# Altium schematic symbol library SCH - MCU - NUVOTON - NUVOTON M2354KJFAE.SchLib: 1 symbol
Pins are listed as number, name and electrical type; pins without a type are passive.

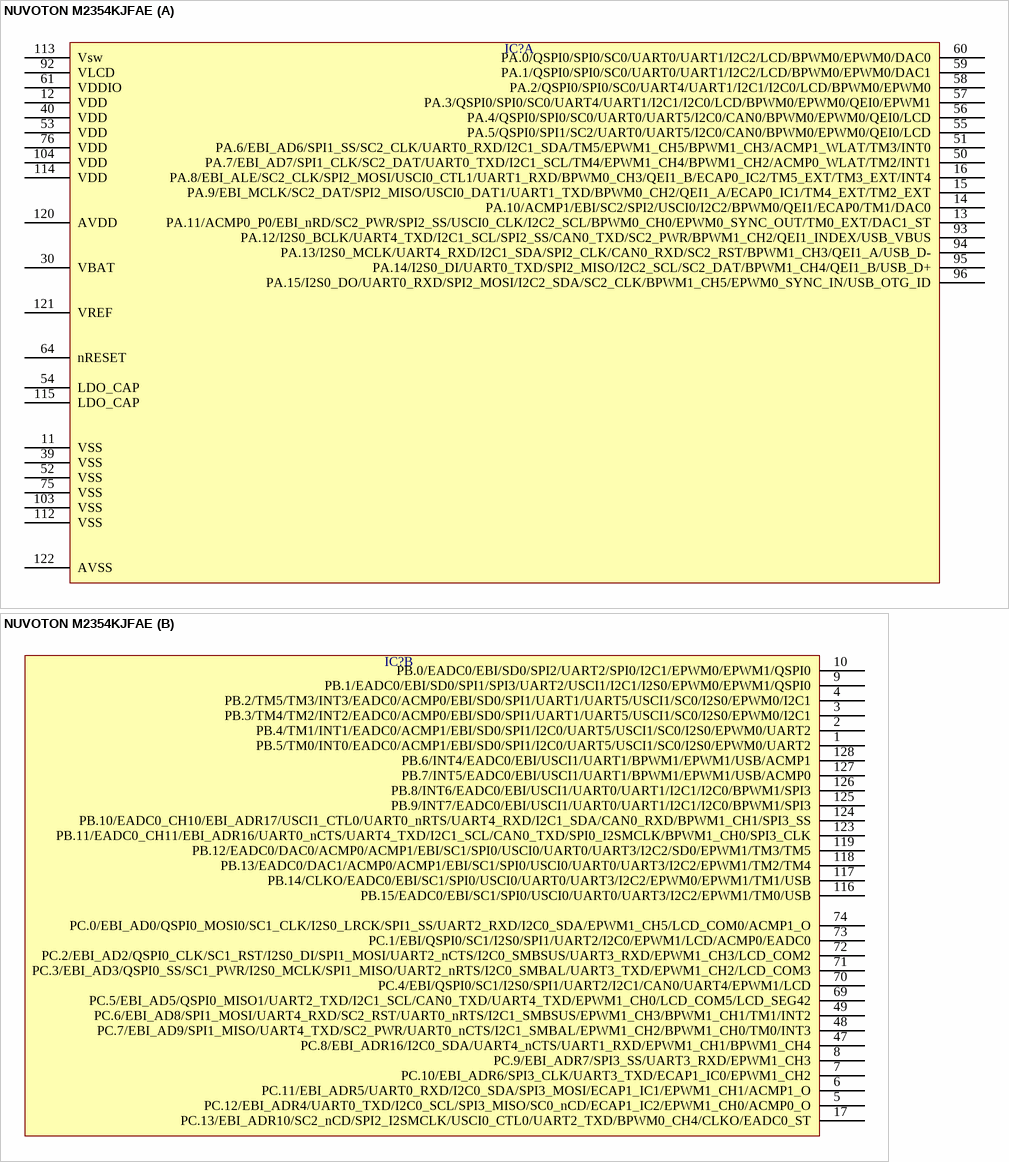
[diagram p0: symbol NUVOTON M2354KJFAE]

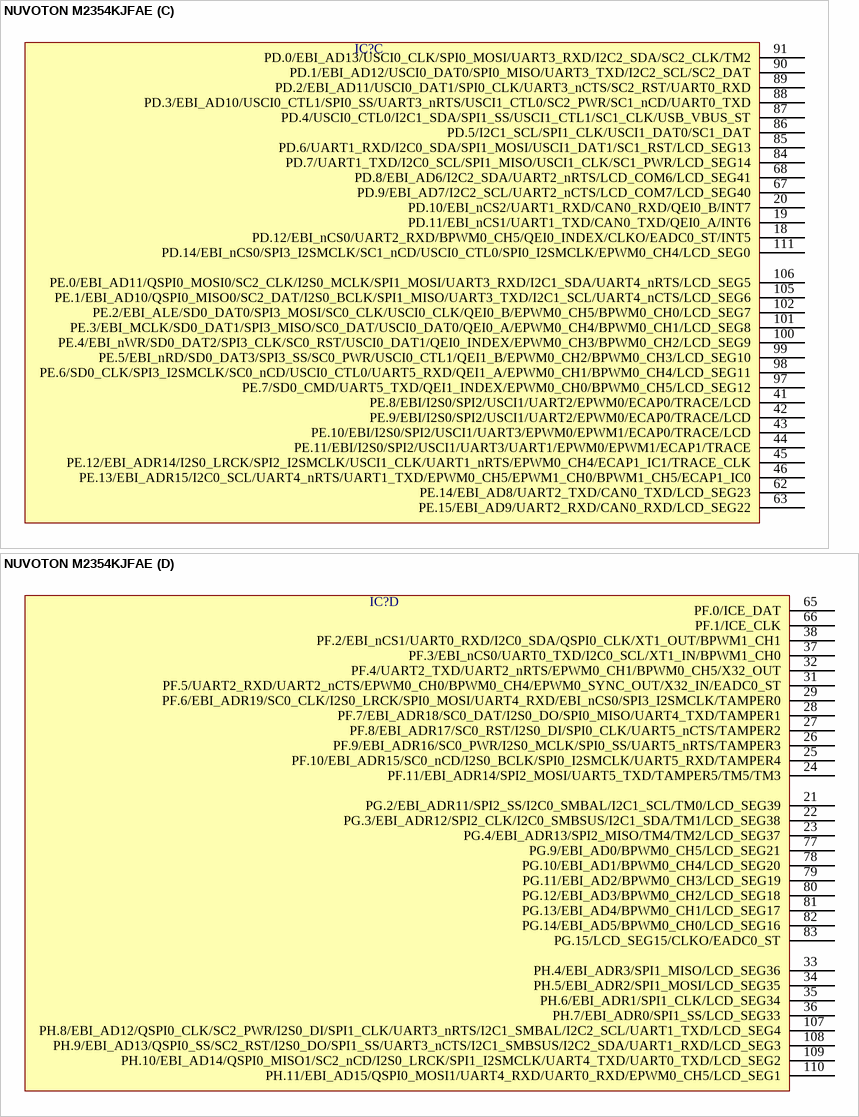
[diagram p1: symbol NUVOTON M2354KJFAE]

## NUVOTON M2354KJFAE
designator IC?  (value not drawn)
part A pins: 11 VSS, 12 VDD, 13 PA.11/ACMP0_P0/EBI_nRD/SC2_PWR/SPI2_SS/USCI0_CLK/I2C2_SCL/BPWM0_CH0/EPWM0_SYNC_OUT/TM0_EXT/DAC1_ST, 14 PA.10/ACMP1/EBI/SC2/SPI2/USCI0/I2C2/BPWM0/QEI1/ECAP0/TM1/DAC0, 15 PA.9/EBI_MCLK/SC2_DAT/SPI2_MISO/USCI0_DAT1/UART1_TXD/BPWM0_CH2/QEI1_A/ECAP0_IC1/TM4_EXT/TM2_EXT, 16 PA.8/EBI_ALE/SC2_CLK/SPI2_MOSI/USCI0_CTL1/UART1_RXD/BPWM0_CH3/QEI1_B/ECAP0_IC2/TM5_EXT/TM3_EXT/INT4, 30 VBAT, 39 VSS, 40 VDD, 50 PA.7/EBI_AD7/SPI1_CLK/SC2_DAT/UART0_TXD/I2C1_SCL/TM4/EPWM1_CH4/BPWM1_CH2/ACMP0_WLAT/TM2/INT1, 51 PA.6/EBI_AD6/SPI1_SS/SC2_CLK/UART0_RXD/I2C1_SDA/TM5/EPWM1_CH5/BPWM1_CH3/ACMP1_WLAT/TM3/INT0, 52 VSS, 53 VDD, 54 LDO_CAP, 55 PA.5/QSPI0/SPI1/SC2/UART0/UART5/I2C0/CAN0/BPWM0/EPWM0/QEI0/LCD, 56 PA.4/QSPI0/SPI0/SC0/UART0/UART5/I2C0/CAN0/BPWM0/EPWM0/QEI0/LCD, 57 PA.3/QSPI0/SPI0/SC0/UART4/UART1/I2C1/I2C0/LCD/BPWM0/EPWM0/QEI0/EPWM1, 58 PA.2/QSPI0/SPI0/SC0/UART4/UART1/I2C1/I2C0/LCD/BPWM0/EPWM0, 59 PA.1/QSPI0/SPI0/SC0/UART0/UART1/I2C2/LCD/BPWM0/EPWM0/DAC1, 60 PA.0/QSPI0/SPI0/SC0/UART0/UART1/I2C2/LCD/BPWM0/EPWM0/DAC0, 61 VDDIO, 64 nRESET, 75 VSS, 76 VDD, 92 VLCD, 93 PA.12/I2S0_BCLK/UART4_TXD/I2C1_SCL/SPI2_SS/CAN0_TXD/SC2_PWR/BPWM1_CH2/QEI1_INDEX/USB_VBUS, 94 PA.13/I2S0_MCLK/UART4_RXD/I2C1_SDA/SPI2_CLK/CAN0_RXD/SC2_RST/BPWM1_CH3/QEI1_A/USB_D-, 95 PA.14/I2S0_DI/UART0_TXD/SPI2_MISO/I2C2_SCL/SC2_DAT/BPWM1_CH4/QEI1_B/USB_D+, 96 PA.15/I2S0_DO/UART0_RXD/SPI2_MOSI/I2C2_SDA/SC2_CLK/BPWM1_CH5/EPWM0_SYNC_IN/USB_OTG_ID, 103 VSS, 104 VDD, 112 VSS, 113 Vsw, 114 VDD, 115 LDO_CAP, 120 AVDD, 121 VREF, 122 AVSS
part B pins: 1 PB.5/TM0/INT0/EADC0/ACMP1/EBI/SD0/SPI1/I2C0/UART5/USCI1/SC0/I2S0/EPWM0/UART2, 2 PB.4/TM1/INT1/EADC0/ACMP1/EBI/SD0/SPI1/I2C0/UART5/USCI1/SC0/I2S0/EPWM0/UART2, 3 PB.3/TM4/TM2/INT2/EADC0/ACMP0/EBI/SD0/SPI1/UART1/UART5/USCI1/SC0/I2S0/EPWM0/I2C1, 4 PB.2/TM5/TM3/INT3/EADC0/ACMP0/EBI/SD0/SPI1/UART1/UART5/USCI1/SC0/I2S0/EPWM0/I2C1, 5 PC.12/EBI_ADR4/UART0_TXD/I2C0_SCL/SPI3_MISO/SC0_nCD/ECAP1_IC2/EPWM1_CH0/ACMP0_O, 6 PC.11/EBI_ADR5/UART0_RXD/I2C0_SDA/SPI3_MOSI/ECAP1_IC1/EPWM1_CH1/ACMP1_O, 7 PC.10/EBI_ADR6/SPI3_CLK/UART3_TXD/ECAP1_IC0/EPWM1_CH2, 8 PC.9/EBI_ADR7/SPI3_SS/UART3_RXD/EPWM1_CH3, 9 PB.1/EADC0/EBI/SD0/SPI1/SPI3/UART2/USCI1/I2C1/I2S0/EPWM0/EPWM1/QSPI0, 10 PB.0/EADC0/EBI/SD0/SPI2/UART2/SPI0/I2C1/EPWM0/EPWM1/QSPI0, 17 PC.13/EBI_ADR10/SC2_nCD/SPI2_I2SMCLK/USCI0_CTL0/UART2_TXD/BPWM0_CH4/CLKO/EADC0_ST, 47 PC.8/EBI_ADR16/I2C0_SDA/UART4_nCTS/UART1_RXD/EPWM1_CH1/BPWM1_CH4, 48 PC.7/EBI_AD9/SPI1_MISO/UART4_TXD/SC2_PWR/UART0_nCTS/I2C1_SMBAL/EPWM1_CH2/BPWM1_CH0/TM0/INT3, 49 PC.6/EBI_AD8/SPI1_MOSI/UART4_RXD/SC2_RST/UART0_nRTS/I2C1_SMBSUS/EPWM1_CH3/BPWM1_CH1/TM1/INT2, 69 PC.5/EBI_AD5/QSPI0_MISO1/UART2_TXD/I2C1_SCL/CAN0_TXD/UART4_TXD/EPWM1_CH0/LCD_COM5/LCD_SEG42, 70 PC.4/EBI/QSPI0/SC1/I2S0/SPI1/UART2/I2C1/CAN0/UART4/EPWM1/LCD, 71 PC.3/EBI_AD3/QSPI0_SS/SC1_PWR/I2S0_MCLK/SPI1_MISO/UART2_nRTS/I2C0_SMBAL/UART3_TXD/EPWM1_CH2/LCD_COM3, 72 PC.2/EBI_AD2/QSPI0_CLK/SC1_RST/I2S0_DI/SPI1_MOSI/UART2_nCTS/I2C0_SMBSUS/UART3_RXD/EPWM1_CH3/LCD_COM2, 73 PC.1/EBI/QSPI0/SC1/I2S0/SPI1/UART2/I2C0/EPWM1/LCD/ACMP0/EADC0, 74 PC.0/EBI_AD0/QSPI0_MOSI0/SC1_CLK/I2S0_LRCK/SPI1_SS/UART2_RXD/I2C0_SDA/EPWM1_CH5/LCD_COM0/ACMP1_O, 116 PB.15/EADC0/EBI/SC1/SPI0/USCI0/UART0/UART3/I2C2/EPWM1/TM0/USB, 117 PB.14/CLKO/EADC0/EBI/SC1/SPI0/USCI0/UART0/UART3/I2C2/EPWM0/EPWM1/TM1/USB, 118 PB.13/EADC0/DAC1/ACMP0/ACMP1/EBI/SC1/SPI0/USCI0/UART0/UART3/I2C2/EPWM1/TM2/TM4, 119 PB.12/EADC0/DAC0/ACMP0/ACMP1/EBI/SC1/SPI0/USCI0/UART0/UART3/I2C2/SD0/EPWM1/TM3/TM5, 123 PB.11/EADC0_CH11/EBI_ADR16/UART0_nCTS/UART4_TXD/I2C1_SCL/CAN0_TXD/SPI0_I2SMCLK/BPWM1_CH0/SPI3_CLK, 124 PB.10/EADC0_CH10/EBI_ADR17/USCI1_CTL0/UART0_nRTS/UART4_RXD/I2C1_SDA/CAN0_RXD/BPWM1_CH1/SPI3_SS, 125 PB.9/INT7/EADC0/EBI/USCI1/UART0/UART1/I2C1/I2C0/BPWM1/SPI3, 126 PB.8/INT6/EADC0/EBI/USCI1/UART0/UART1/I2C1/I2C0/BPWM1/SPI3, 127 PB.7/INT5/EADC0/EBI/USCI1/UART1/BPWM1/EPWM1/USB/ACMP0, 128 PB.6/INT4/EADC0/EBI/USCI1/UART1/BPWM1/EPWM1/USB/ACMP1
part C pins: 18 PD.12/EBI_nCS0/UART2_RXD/BPWM0_CH5/QEI0_INDEX/CLKO/EADC0_ST/INT5, 19 PD.11/EBI_nCS1/UART1_TXD/CAN0_TXD/QEI0_A/INT6, 20 PD.10/EBI_nCS2/UART1_RXD/CAN0_RXD/QEI0_B/INT7, 41 PE.8/EBI/I2S0/SPI2/USCI1/UART2/EPWM0/ECAP0/TRACE/LCD, 42 PE.9/EBI/I2S0/SPI2/USCI1/UART2/EPWM0/ECAP0/TRACE/LCD, 43 PE.10/EBI/I2S0/SPI2/USCI1/UART3/EPWM0/EPWM1/ECAP0/TRACE/LCD, 44 PE.11/EBI/I2S0/SPI2/USCI1/UART3/UART1/EPWM0/EPWM1/ECAP1/TRACE, 45 PE.12/EBI_ADR14/I2S0_LRCK/SPI2_I2SMCLK/USCI1_CLK/UART1_nRTS/EPWM0_CH4/ECAP1_IC1/TRACE_CLK, 46 PE.13/EBI_ADR15/I2C0_SCL/UART4_nRTS/UART1_TXD/EPWM0_CH5/EPWM1_CH0/BPWM1_CH5/ECAP1_IC0, 62 PE.14/EBI_AD8/UART2_TXD/CAN0_TXD/LCD_SEG23, 63 PE.15/EBI_AD9/UART2_RXD/CAN0_RXD/LCD_SEG22, 67 PD.9/EBI_AD7/I2C2_SCL/UART2_nCTS/LCD_COM7/LCD_SEG40, 68 PD.8/EBI_AD6/I2C2_SDA/UART2_nRTS/LCD_COM6/LCD_SEG41, 84 PD.7/UART1_TXD/I2C0_SCL/SPI1_MISO/USCI1_CLK/SC1_PWR/LCD_SEG14, 85 PD.6/UART1_RXD/I2C0_SDA/SPI1_MOSI/USCI1_DAT1/SC1_RST/LCD_SEG13, 86 PD.5/I2C1_SCL/SPI1_CLK/USCI1_DAT0/SC1_DAT, 87 PD.4/USCI0_CTL0/I2C1_SDA/SPI1_SS/USCI1_CTL1/SC1_CLK/USB_VBUS_ST, 88 PD.3/EBI_AD10/USCI0_CTL1/SPI0_SS/UART3_nRTS/USCI1_CTL0/SC2_PWR/SC1_nCD/UART0_TXD, 89 PD.2/EBI_AD11/USCI0_DAT1/SPI0_CLK/UART3_nCTS/SC2_RST/UART0_RXD, 90 PD.1/EBI_AD12/USCI0_DAT0/SPI0_MISO/UART3_TXD/I2C2_SCL/SC2_DAT, 91 PD.0/EBI_AD13/USCI0_CLK/SPI0_MOSI/UART3_RXD/I2C2_SDA/SC2_CLK/TM2, 97 PE.7/SD0_CMD/UART5_TXD/QEI1_INDEX/EPWM0_CH0/BPWM0_CH5/LCD_SEG12, 98 PE.6/SD0_CLK/SPI3_I2SMCLK/SC0_nCD/USCI0_CTL0/UART5_RXD/QEI1_A/EPWM0_CH1/BPWM0_CH4/LCD_SEG11, 99 PE.5/EBI_nRD/SD0_DAT3/SPI3_SS/SC0_PWR/USCI0_CTL1/QEI1_B/EPWM0_CH2/BPWM0_CH3/LCD_SEG10, 100 PE.4/EBI_nWR/SD0_DAT2/SPI3_CLK/SC0_RST/USCI0_DAT1/QEI0_INDEX/EPWM0_CH3/BPWM0_CH2/LCD_SEG9, 101 PE.3/EBI_MCLK/SD0_DAT1/SPI3_MISO/SC0_DAT/USCI0_DAT0/QEI0_A/EPWM0_CH4/BPWM0_CH1/LCD_SEG8, 102 PE.2/EBI_ALE/SD0_DAT0/SPI3_MOSI/SC0_CLK/USCI0_CLK/QEI0_B/EPWM0_CH5/BPWM0_CH0/LCD_SEG7, 105 PE.1/EBI_AD10/QSPI0_MISO0/SC2_DAT/I2S0_BCLK/SPI1_MISO/UART3_TXD/I2C1_SCL/UART4_nCTS/LCD_SEG6, 106 PE.0/EBI_AD11/QSPI0_MOSI0/SC2_CLK/I2S0_MCLK/SPI1_MOSI/UART3_RXD/I2C1_SDA/UART4_nRTS/LCD_SEG5, 111 PD.14/EBI_nCS0/SPI3_I2SMCLK/SC1_nCD/USCI0_CTL0/SPI0_I2SMCLK/EPWM0_CH4/LCD_SEG0
part D pins: 21 PG.2/EBI_ADR11/SPI2_SS/I2C0_SMBAL/I2C1_SCL/TM0/LCD_SEG39, 22 PG.3/EBI_ADR12/SPI2_CLK/I2C0_SMBSUS/I2C1_SDA/TM1/LCD_SEG38, 23 PG.4/EBI_ADR13/SPI2_MISO/TM4/TM2/LCD_SEG37, 24 PF.11/EBI_ADR14/SPI2_MOSI/UART5_TXD/TAMPER5/TM5/TM3, 25 PF.10/EBI_ADR15/SC0_nCD/I2S0_BCLK/SPI0_I2SMCLK/UART5_RXD/TAMPER4, 26 PF.9/EBI_ADR16/SC0_PWR/I2S0_MCLK/SPI0_SS/UART5_nRTS/TAMPER3, 27 PF.8/EBI_ADR17/SC0_RST/I2S0_DI/SPI0_CLK/UART5_nCTS/TAMPER2, 28 PF.7/EBI_ADR18/SC0_DAT/I2S0_DO/SPI0_MISO/UART4_TXD/TAMPER1, 29 PF.6/EBI_ADR19/SC0_CLK/I2S0_LRCK/SPI0_MOSI/UART4_RXD/EBI_nCS0/SPI3_I2SMCLK/TAMPER0, 31 PF.5/UART2_RXD/UART2_nCTS/EPWM0_CH0/BPWM0_CH4/EPWM0_SYNC_OUT/X32_IN/EADC0_ST, 32 PF.4/UART2_TXD/UART2_nRTS/EPWM0_CH1/BPWM0_CH5/X32_OUT, 33 PH.4/EBI_ADR3/SPI1_MISO/LCD_SEG36, 34 PH.5/EBI_ADR2/SPI1_MOSI/LCD_SEG35, 35 PH.6/EBI_ADR1/SPI1_CLK/LCD_SEG34, 36 PH.7/EBI_ADR0/SPI1_SS/LCD_SEG33, 37 PF.3/EBI_nCS0/UART0_TXD/I2C0_SCL/XT1_IN/BPWM1_CH0, 38 PF.2/EBI_nCS1/UART0_RXD/I2C0_SDA/QSPI0_CLK/XT1_OUT/BPWM1_CH1, 65 PF.0/ICE_DAT, 66 PF.1/ICE_CLK, 77 PG.9/EBI_AD0/BPWM0_CH5/LCD_SEG21, 78 PG.10/EBI_AD1/BPWM0_CH4/LCD_SEG20, 79 PG.11/EBI_AD2/BPWM0_CH3/LCD_SEG19, 80 PG.12/EBI_AD3/BPWM0_CH2/LCD_SEG18, 81 PG.13/EBI_AD4/BPWM0_CH1/LCD_SEG17, 82 PG.14/EBI_AD5/BPWM0_CH0/LCD_SEG16, 83 PG.15/LCD_SEG15/CLKO/EADC0_ST, 107 PH.8/EBI_AD12/QSPI0_CLK/SC2_PWR/I2S0_DI/SPI1_CLK/UART3_nRTS/I2C1_SMBAL/I2C2_SCL/UART1_TXD/LCD_SEG4, 108 PH.9/EBI_AD13/QSPI0_SS/SC2_RST/I2S0_DO/SPI1_SS/UART3_nCTS/I2C1_SMBSUS/I2C2_SDA/UART1_RXD/LCD_SEG3, 109 PH.10/EBI_AD14/QSPI0_MISO1/SC2_nCD/I2S0_LRCK/SPI1_I2SMCLK/UART4_TXD/UART0_TXD/LCD_SEG2, 110 PH.11/EBI_AD15/QSPI0_MOSI1/UART4_RXD/UART0_RXD/EPWM0_CH5/LCD_SEG1